# Altium schematic symbol library ICM20648.SchLib: 1 symbol
Pins are listed as number, name and electrical type; pins without a type are passive.

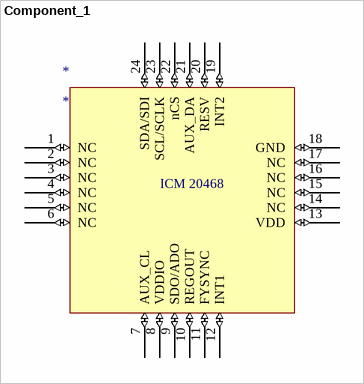
[diagram p0: symbol Component_1]

## Component_1
designator *
footprint PQFN40P300X300X90_HS-25N (PQFN, 24-Leads, Body 3.00x3.00mm, Pitch 0.40mm, Thermal Pad 1.70x1.54mm, IPC Medium Density)
pins: 1 NC (io), 2 NC (io), 3 NC (io), 4 NC (io), 5 NC (io), 6 NC (io), 7 AUX_CL (io), 8 VDDIO (io), 9 SDO/ADO (io), 10 REGOUT (io), 11 FYSYNC (io), 12 INT1 (io), 13 VDD (io), 14 NC (io), 15 NC (io), 16 NC (io), 17 NC (io), 18 GND (io), 19 INT2 (io), 20 RESV (io), 21 AUX_DA (io), 22 nCS (io), 23 SCL/SCLK (io), 24 SDA/SDI (io)
text: ICM 20468